# EAGLE library part TPS54240_DRC_10 (library SwitcherPowerStage)
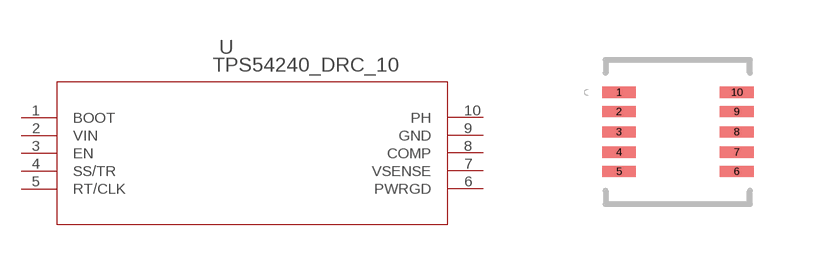
[diagram p0: symbol with the pads of DRC10_2P4X1P65; footprint DRC10_2P4X1P65]

Designator prefix U

## TPS54240_DRC_10 (DATASHEETURL: http://www.ti.com/lit/gpn/TPS54240; DESCRIPTION: 3.5V to 42V Input, 2.5A Step-Down Converter with Eco-Mode; FAMILY_NAME: STEP-DOWN REGULATOR; GENERIC_PART_NUMBER: TPS54240; INDUSTRY_STD_PKG_TYPE: SON; MANUFACTURER: Texas Instruments; MANUFACTURER_PART_NUMBER: tps54240_drc_10; PACKAGE_DESIGNATOR: DRC; PIN_COUNT: 10; VENDOR: Texas Instruments)  [DRC10_2P4X1P65]
1  BOOT  out
2  VIN  in
3  EN  in
4  SS/TR  in
5  RT/CLK  in
6  PWRGD  out
7  VSENSE  in
8  COMP  out
9  GND  pwr
10  PH  in

## Footprint DRC10_2P4X1P65 (pad centres in mm)
smd 0.838 x 0.279: 1 -1.473,0.991; 2 -1.473,0.508; 3 -1.473,0; 4 -1.473,-0.508; 5 -1.473,-0.991; 6 1.473,-0.991; 7 1.473,-0.508; 8 1.473,0; 9 1.473,0.508; 10 1.473,0.991